# Altium footprint library AS5600.PcbLib: 15 footprints
Each footprint in its own frame and in the unit in brackets; x right, y up, seen from the top. Pads: shape width x height; smd on the part's side, far side on the other; paste and mask are expansions set on the pad; w line width, h text height; cw(c..) or ccw(c..) is an arc to the next point about the centre after c.
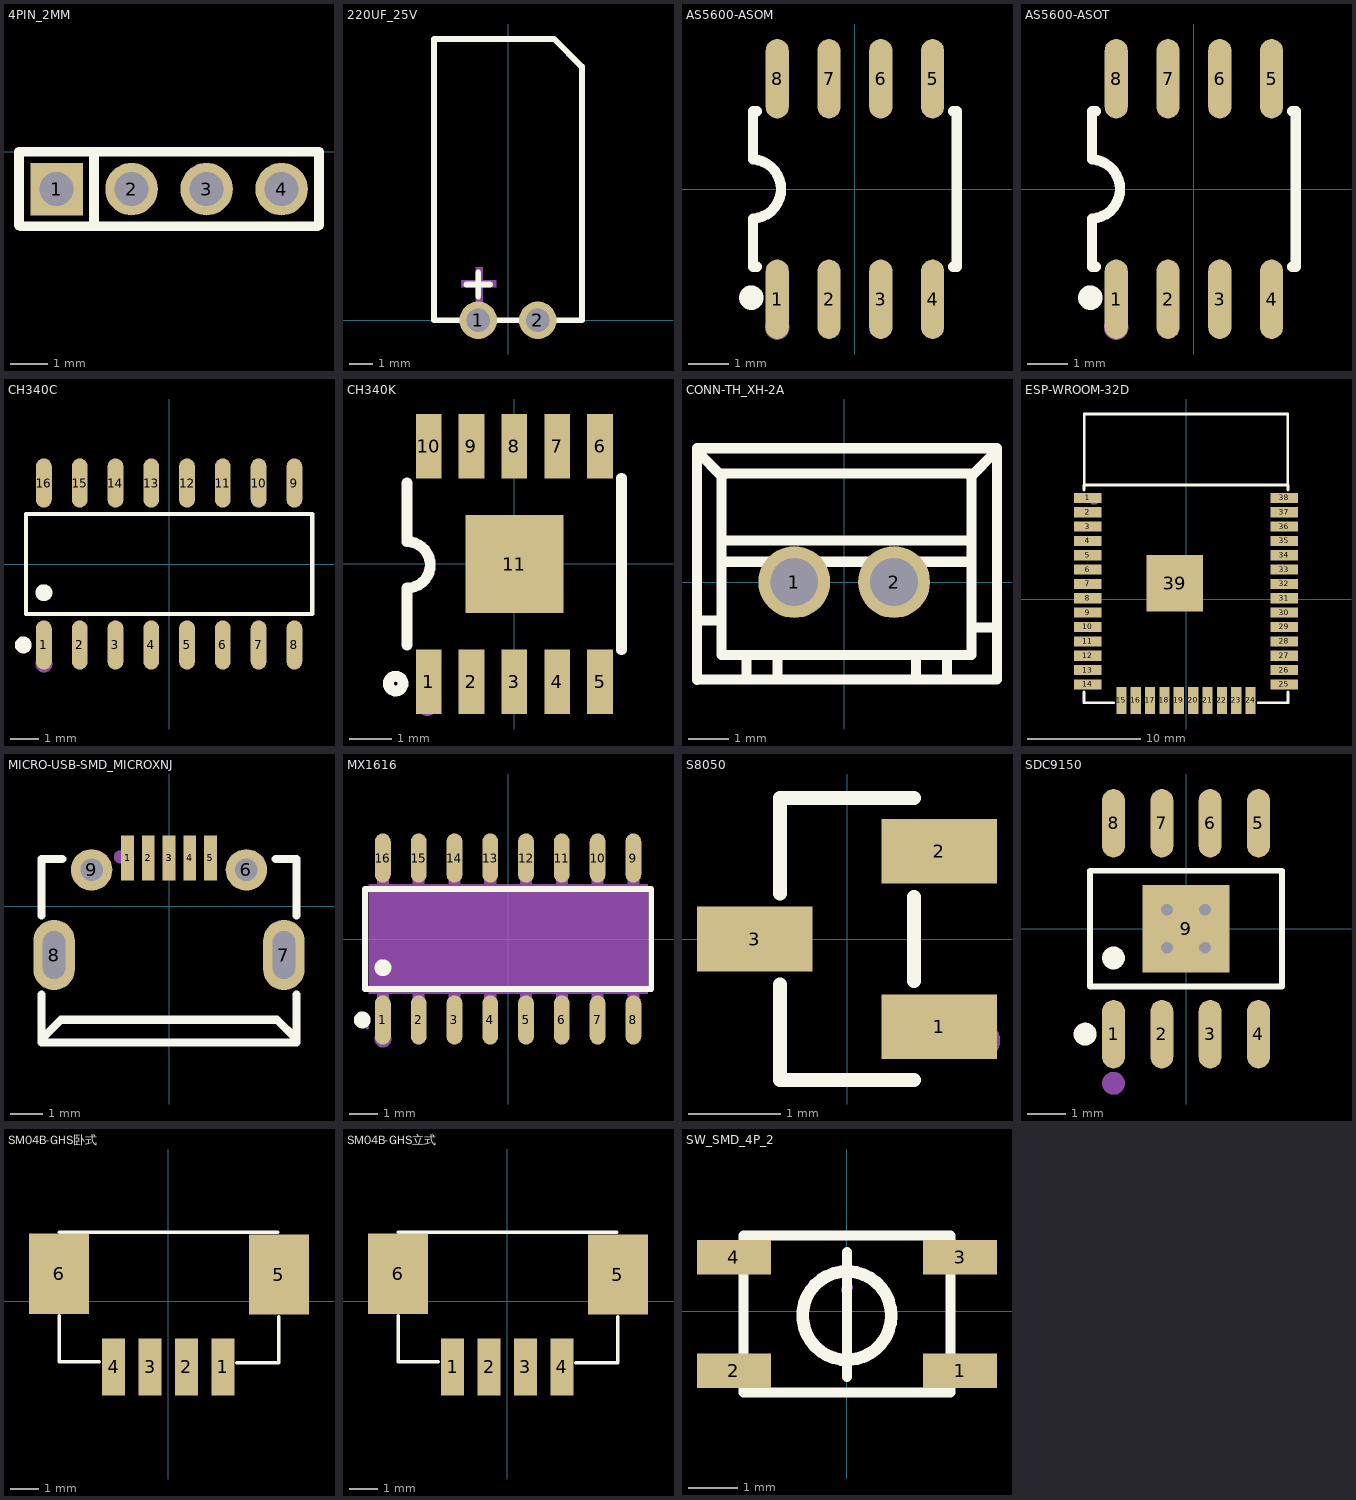
[diagram p0: the footprints below, top view; thin cyan lines are the x and y axes]

## 4PIN_2MM [mm]
pads (4):
  rect 1.4x1.4 hole 0.9: 1(-15,-1)
  round 1.4 hole 0.9: 2(-13,-1) 3(-11,-1) 4(-9,-1)
Top Overlay:
  lines w0.254: -14,-1.999 -14,0 ; -14,0 -8.001,0 -8.001,-1.965 -8.034,-1.999 -15.969,-1.999 -16,-1.967 -16,0 -14,0

## 220UF_25V [mm]
pads (2):
  round 1.6 hole 1: 1(-1.27,0) 2(1.27,0)
Top Overlay:
  lines w0.254: -1.778,1.524 -0.762,1.524 ; -1.27,1.016 -1.27,2.032 ; -3.15,0 3.15,0 3.15,10.82 1.97,12 -3.15,12 -3.15,0
Mechanical 15:
  region: -2,1.7 -0.5,1.7 -0.5,1.4 -2,1.4
  region: -1.381,0.752 -1.381,2.252 -1.081,2.252 -1.081,0.752

## AS5600-ASOM [mil]
pads (8):
  oval 22.38x76.78 smd: 1(-75,-106.5) 2(-25,-106.5) 3(25,-106.5) 4(75,-106.5) 5(75,106.5) 6(25,106.5) 7(-25,106.5) 8(-75,106.5)
Top Overlay:
  circle w11.81: c-100,-105 r5.91
  lines w10: -98.43,-28.61 ccw(c-99.99,0) -98.23,28.59 ; -98.42,-28.61 -98.42,-59.05 -98.42,-75 -94.83,-75 ; -98.42,28.59 -98.42,59.05 -98.42,75 -94.83,75 ; 94.83,-75 98.42,-75 98.42,-59.05 98.42,59.05 98.42,75 94.83,75
Mechanical 15:
  circle w11.81: c-75,-133.86 r5.91

## AS5600-ASOT [mil]
pads (8):
  oval 22.38x76.78 smd: 1(-75,-106.5) 2(-25,-106.5) 3(25,-106.5) 4(75,-106.5) 5(75,106.5) 6(25,106.5) 7(-25,106.5) 8(-75,106.5)
Top Overlay:
  circle w11.81: c-100,-105 r5.91
  lines w10: -98.43,-28.61 ccw(c-99.99,0) -98.23,28.59 ; -98.42,-28.61 -98.42,-59.05 -98.42,-75 -94.83,-75 ; -98.42,28.59 -98.42,59.05 -98.42,75 -94.83,75 ; 94.83,-75 98.42,-75 98.42,-59.05 98.42,59.05 98.42,75 94.83,75
Mechanical 15:
  circle w11.81: c-75,-133.86 r5.91

## CH340C [mm]
pads (16):
  oval 0.56x1.745 smd: 1(-4.445,-2.873) 2(-3.175,-2.873) 3(-1.905,-2.873) 4(-0.635,-2.873) 5(0.635,-2.873) 6(1.905,-2.873) 7(3.175,-2.873) 8(4.445,-2.873) 9(4.445,2.873) 10(3.175,2.873) 11(1.905,2.873) 12(0.635,2.873) 13(-0.635,2.873) 14(-1.905,2.873) 15(-3.175,2.873) 16(-4.445,2.873)
Top Overlay:
  circle w0.3: c-4.445,-1.019 r0.15
  circle w0.3: c-5.177,-2.872 r0.15
  lines w0.152: -5.076,-1.771 -5.076,1.771 5.076,1.771 5.076,-1.771 -5.076,-1.771
Mechanical 15:
  circle w0.3: c-4.445,-3.55 r0.15

## CH340K [mm]
pads (11):
  rect 0.6x1.5 smd: 1(-2,-2.75) 2(-1,-2.75) 3(0,-2.75) 4(1,-2.75) 5(2,-2.75) 6(2,2.75) 7(1,2.75) 8(0,2.75) 9(-1,2.75) 10(-2,2.75)
  rect 2.286x2.286 smd: 11(0,0)
Top Overlay:
  circle w0.254: c-2.77,-2.79 r0.171
  lines w0.254: -2.5,-1.887 -2.5,-0.564 ; -2.501,-0.563 ccw(c-2.504,-0.022) -2.5,0.52 -2.5,1.887 ; 2.5,-2 2.5,2
Mechanical 15:
  circle w0.2: c-2.03,-3.35 r0.1

## CONN-TH_XH-2A [mm]
pads (2):
  round 1.8 hole 1.199: 1(-1.251,0) 2(1.251,0)
Top Overlay:
  lines w0.254: -3.689,-2.447 -3.689,3.353 3.811,3.353 ; -3.689,-0.965 -3.105,-0.965 ; -3.671,-2.438 3.829,-2.438 3.829,3.353 ; -3.664,3.327 -3.664,3.251 -3.054,2.642 ; -3.08,0.508 3.194,0.508 ; -3.08,1.041 3.194,1.041 ; -3.08,2.718 3.194,2.718 3.194,-1.829 -3.08,-1.829 -3.08,2.692 -3.054,2.692 ; -2.445,-2.413 -2.445,-1.829 ; -1.67,-2.426 -1.67,-1.841 ; 1.797,-2.413 1.797,-1.829 ; 2.572,-2.426 2.572,-1.841 ; 3.169,2.642 3.778,3.251 3.778,3.327 ; 3.219,-1.143 3.804,-1.143

## ESP-WROOM-32D [mm]
pads (39):
  rect 2.4x0.9 smd: 1(-8.7,8.965) 2(-8.7,7.695) 3(-8.7,6.425) 4(-8.7,5.155) 5(-8.7,3.885) 6(-8.7,2.615) 7(-8.7,1.345) 8(-8.7,0.075) 9(-8.7,-1.195) 10(-8.7,-2.465) 11(-8.7,-3.735) 12(-8.7,-5.005) 13(-8.7,-6.275) 14(-8.7,-7.545) 25(8.7,-7.545) 26(8.7,-6.275) 27(8.7,-5.005) 28(8.7,-3.735) 29(8.7,-2.465) 30(8.7,-1.195) 31(8.7,0.075) 32(8.7,1.345) 33(8.7,2.615) 34(8.7,3.885) 35(8.7,5.155) 36(8.7,6.425) 37(8.7,7.695) 38(8.7,8.965)
  rect 0.9x2.4 smd: 15(-5.715,-8.965) 16(-4.445,-8.965) 17(-3.175,-8.965) 18(-1.905,-8.965) 19(-0.635,-8.965) 20(0.635,-8.965) 21(1.905,-8.965) 22(3.175,-8.965) 23(4.445,-8.965) 24(5.715,-8.965)
  rect 5x5 smd: 39(-1.017,1.422)
Top Overlay:
  lines w0.254: -9.017,-8.226 -9.017,-9.171 -6.396,-9.171 ; -9.017,9.646 -9.017,10.108 9.017,10.108 9.017,9.646 ; 6.396,-9.171 9.017,-9.171 9.017,-8.226 ; -9,10.085 9,10.085 9,16.385 -9,16.385 -9,10.085
Mechanical 15:
  circle w0.5: c-8.128,8.863 r0.25

## MICRO-USB-SMD_MICROXNJ [mm]
pads (9):
  rect 0.4x1.4 smd: 1(-1.3,1.521) 2(-0.65,1.521) 3(0,1.521) 4(0.65,1.521) 5(1.3,1.521)
  round 1.3 hole 0.7: 6(2.425,1.149) 9(-2.425,1.149)
  oval 1.3x2.2 hole 0.7 slot 1.5 at 90 deg: 7(3.6,-1.521) 8(-3.6,-1.521)
Top Overlay:
  lines w0.254: -4,-4.259 4,-4.259 4,-2.756 ; -4,-4.239 -4,-2.756 ; -4,-0.287 -4,1.491 -3.344,1.491 ; -3.97,-4.239 -3.97,-4.139 -3.38,-3.549 3.39,-3.549 3.98,-4.139 3.98,-4.259 ; 3.344,1.491 4,1.491 4,-0.287
Top Paste:
  circle w0.65: c-2.425,1.149 r0.325
  circle w0.65: c2.425,1.149 r0.325
  region: 2.95,-1.071 2.95,-0.986 2.994,-0.82 3.08,-0.672 3.201,-0.551 3.349,-0.466 3.514,-0.421 3.686,-0.421 3.851,-0.466 3.999,-0.551 4.12,-0.672 4.206,-0.82 4.25,-0.986 4.25,-1.071 4.25,-1.971 4.25,-2.057 4.206,-2.222 4.12,-2.37 3.999,-2.491 3.851,-2.577 3.686,-2.621 3.514,-2.621 3.349,-2.577 3.201,-2.491 3.08,-2.37 2.994,-2.222 2.95,-2.057 2.95,-1.971
  region: -4.25,-1.071 -4.25,-0.986 -4.206,-0.82 -4.12,-0.672 -3.999,-0.551 -3.851,-0.466 -3.685,-0.421 -3.514,-0.421 -3.349,-0.466 -3.201,-0.551 -3.08,-0.672 -2.994,-0.82 -2.95,-0.986 -2.95,-1.071 -2.95,-1.971 -2.95,-2.057 -2.994,-2.222 -3.08,-2.37 -3.201,-2.491 -3.349,-2.577 -3.514,-2.621 -3.685,-2.621 -3.851,-2.577 -3.999,-2.491 -4.12,-2.37 -4.206,-2.222 -4.25,-2.057 -4.25,-1.971
  region: 1.5,2.221 1.1,2.221 1.1,1.021 1.1,0.821 1.5,0.821 1.5,1.058
  region: 0.85,2.221 0.45,2.221 0.45,1.021 0.45,0.821 0.85,0.821 0.85,1.058
  region: 0.2,2.221 -0.2,2.221 -0.2,1.021 -0.2,0.821 0.2,0.821 0.2,1.058
  region: -0.45,2.221 -0.85,2.221 -0.85,1.021 -0.85,0.821 -0.45,0.821 -0.45,1.058
  region: -1.1,2.221 -1.5,2.221 -1.5,1.021 -1.5,0.821 -1.1,0.821 -1.1,1.058
Mechanical 15:
  circle w0.2: c-1.53,1.554 r0.1

## MX1616 [mm]
pads (16):
  oval 0.56x1.745 smd: 1(-4.445,-2.873) 2(-3.175,-2.873) 3(-1.905,-2.873) 4(-0.635,-2.873) 5(0.635,-2.873) 6(1.905,-2.873) 7(3.175,-2.873) 8(4.445,-2.873) 9(4.445,2.873) 10(3.175,2.873) 11(1.905,2.873) 12(0.635,2.873) 13(-0.635,2.873) 14(-1.905,2.873) 15(-3.175,2.873) 16(-4.445,2.873)
Top Overlay:
  circle w0.3: c-4.445,-1.019 r0.15
  circle w0.3: c-5.177,-2.872 r0.15
  lines w0.203: -5.076,-1.771 -5.076,1.771 5.076,1.771 5.076,-1.771 -5.076,-1.771
Mechanical 4:
  region: -4.95,-1.95 -4.95,1.95 4.95,1.95 4.95,-1.95
Mechanical 5:
  pour cut-out: 4.24,1.94 4.24,2.175 4.65,2.175 4.65,1.94
  region: 4.24,2.165 4.24,3 4.65,3 4.65,2.165
  pour cut-out: 2.97,1.94 2.97,2.175 3.38,2.175 3.38,1.94
  region: 2.97,2.165 2.97,3 3.38,3 3.38,2.165
  pour cut-out: 1.7,1.94 1.7,2.175 2.11,2.175 2.11,1.94
  region: 1.7,2.165 1.7,3 2.11,3 2.11,2.165
  pour cut-out: 0.43,1.94 0.43,2.175 0.84,2.175 0.84,1.94
  region: 0.43,2.165 0.43,3 0.84,3 0.84,2.165
  pour cut-out: -0.84,1.94 -0.84,2.175 -0.43,2.175 -0.43,1.94
  region: -0.84,2.165 -0.84,3 -0.43,3 -0.43,2.165
  pour cut-out: -2.11,1.94 -2.11,2.175 -1.7,2.175 -1.7,1.94
  region: -2.11,2.165 -2.11,3 -1.7,3 -1.7,2.165
  pour cut-out: -3.38,1.94 -3.38,2.175 -2.97,2.175 -2.97,1.94
  region: -3.38,2.165 -3.38,3 -2.97,3 -2.97,2.165
  pour cut-out: -4.65,1.94 -4.65,2.175 -4.24,2.175 -4.24,1.94
  region: -4.65,2.165 -4.65,3 -4.24,3 -4.24,2.165
  pour cut-out: 4.24,-2.175 4.24,-1.94 4.65,-1.94 4.65,-2.175
  region: 4.24,-3 4.24,-2.165 4.65,-2.165 4.65,-3
  pour cut-out: 2.97,-2.175 2.97,-1.94 3.38,-1.94 3.38,-2.175
  region: 2.97,-3 2.97,-2.165 3.38,-2.165 3.38,-3
  pour cut-out: 1.7,-2.175 1.7,-1.94 2.11,-1.94 2.11,-2.175
  region: 1.7,-3 1.7,-2.165 2.11,-2.165 2.11,-3
  pour cut-out: 0.43,-2.175 0.43,-1.94 0.84,-1.94 0.84,-2.175
  region: 0.43,-3 0.43,-2.165 0.84,-2.165 0.84,-3
  pour cut-out: -0.84,-2.175 -0.84,-1.94 -0.43,-1.94 -0.43,-2.175
  region: -0.84,-3 -0.84,-2.165 -0.43,-2.165 -0.43,-3
  pour cut-out: -2.11,-2.175 -2.11,-1.94 -1.7,-1.94 -1.7,-2.175
  region: -2.11,-3 -2.11,-2.165 -1.7,-2.165 -1.7,-3
  pour cut-out: -3.38,-2.175 -3.38,-1.94 -2.97,-1.94 -2.97,-2.175
  region: -3.38,-3 -3.38,-2.165 -2.97,-2.165 -2.97,-3
  pour cut-out: -4.65,-2.175 -4.65,-1.94 -4.24,-1.94 -4.24,-2.175
  region: -4.65,-3 -4.65,-2.165 -4.24,-2.165 -4.24,-3
Mechanical 6:
  circle w0.06: c-5,-3.15 r0.03
Mechanical 15:
  circle w0.3: c-4.445,-3.55 r0.15

## S8050 [mm]
pads (3):
  rect 1.25x0.7 smd: 1(1,-0.95) 2(1,0.95) 3(-1,0)
Top Overlay:
  lines w0.152: -0.726,-0.495 -0.726,-1.526 0.726,-1.526 ; -0.726,0.495 -0.726,1.526 0.726,1.526 ; 0.726,-0.455 0.726,0.455
Mechanical 15:
  circle w0.2: c1.46,-1.1 r0.1

## SDC9150 [mm]
pads (9):
  oval 0.6x1.8 smd: 1(-1.905,-2.773) 2(-0.635,-2.773) 3(0.635,-2.773) 4(1.905,-2.773) 5(1.905,2.773) 6(0.635,2.773) 7(-0.635,2.773) 8(-1.905,2.773)
  rect 2.29x2.29 smd: 9(0,0)
via -0.5,0.5 diameter 0.61 hole 0.305
via -0.5,-0.5 diameter 0.61 hole 0.305
via 0.5,-0.5 diameter 0.61 hole 0.305
via 0.5,0.5 diameter 0.61 hole 0.305
Top Overlay:
  circle w0.3: c-1.905,-0.769 r0.15
  circle w0.3: c-2.652,-2.772 r0.15
  lines w0.152: -2.526,-1.521 -2.526,1.521 2.526,1.521 2.526,-1.521 -2.526,-1.521
Mechanical 15:
  circle w0.3: c-1.905,-4.064 r0.15

## SM04B-GHS卧式 [mm]
pads (6):
  rect 0.8x2 smd: 1(1.905,-2.286) 2(0.635,-2.286) 3(-0.635,-2.286) 4(-1.905,-2.286)
  rect 2.1x2.8 smd: 5(3.861,0.94) 6(-3.81,0.965)
Top Overlay:
  lines w0.127: -3.81,-0.508 -3.81,-2.108 -2.413,-2.108 ; -3.81,2.413 3.81,2.413 ; 2.388,-2.134 3.861,-2.134 3.861,-0.533

## SM04B-GHS立式 [mm]
pads (6):
  rect 0.8x2 smd: 1(-1.905,-2.286) 2(-0.635,-2.286) 3(0.635,-2.286) 4(1.905,-2.286)
  rect 2.1x2.8 smd: 5(3.861,0.94) 6(-3.81,0.965)
Top Overlay:
  lines w0.127: -3.81,-0.508 -3.81,-2.108 -2.413,-2.108 ; -3.81,2.413 3.81,2.413 ; 2.388,-2.134 3.861,-2.134 3.861,-0.533

## SW_SMD_4P_2 [mm]
pads (4):
  rect 1.5x0.7 smd: 1(2.301,-1.201) 2(-2.298,-1.201) 3(2.301,1.099) 4(-2.298,1.099)
Top Overlay:
  circle w0.254: c0,-0.084 r0.9
  lines w0.203: 0.001,-1.328 0.001,1.212 ; -2.099,-1.651 2.101,-1.651 2.101,1.549 -2.099,1.549 -2.099,-1.651
Mechanical 15:
  lines w0.203: -0.024,0.44 0.027,0.491
3D body "User Library-LS8.STEP": height 2.51, standoff -0.09, extent -2.447,-1.57 2.453,1.63